# EAGLE library part H616 (library H616)
SOC QUAD CORE A53 TFBGA284 Source: Datasheet <https://linux-sunxi.org/images/b/b9/H616_Datasheet_V1.0_cleaned.pdf>
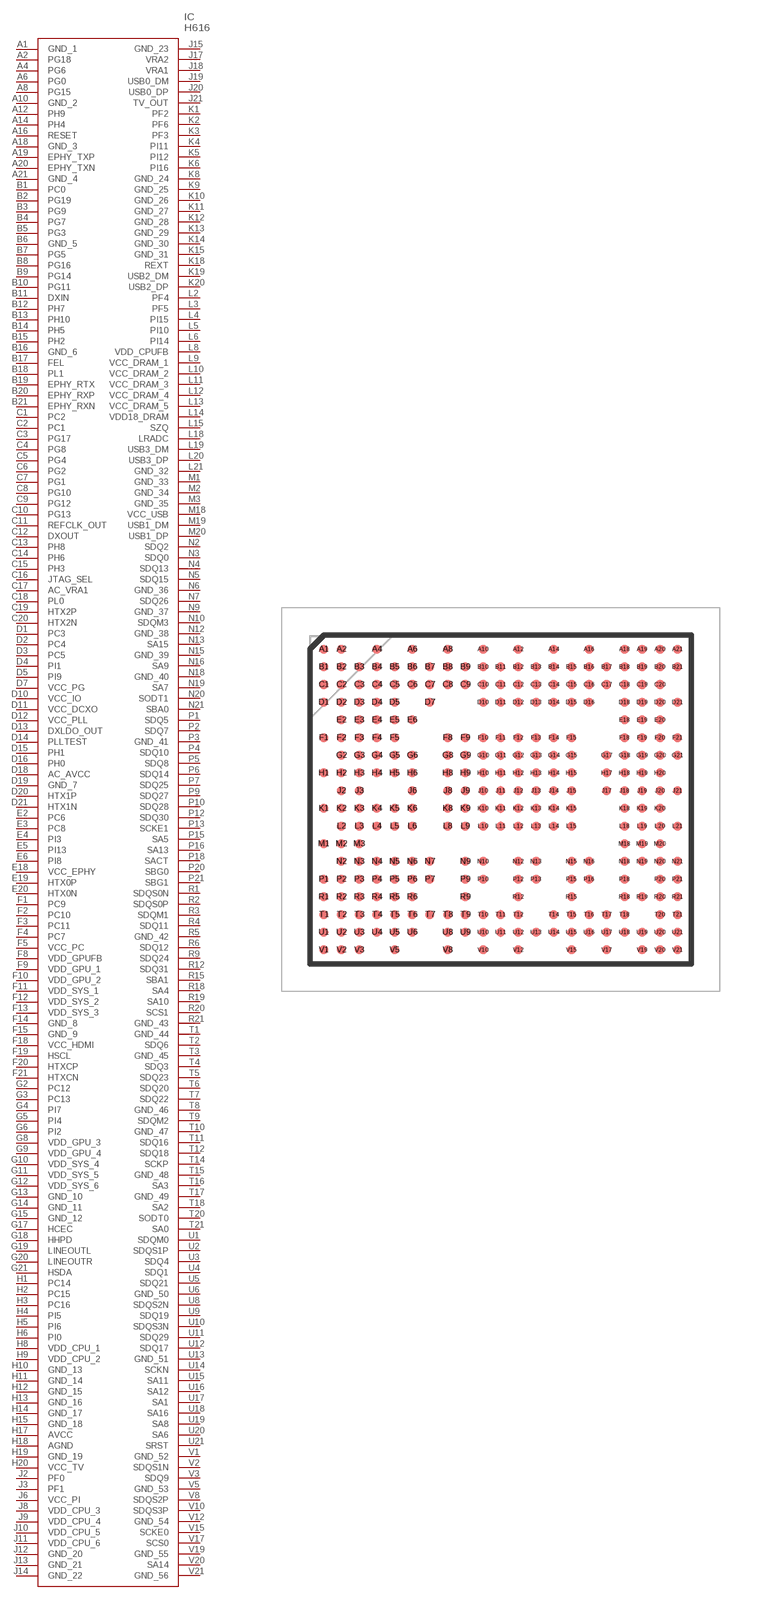
[diagram p0: symbol with the pads of BGA284C65P21X18_1400X1200X133; footprint BGA284C65P21X18_1400X1200X133]

Designator prefix IC

## H616 (Description: SOC QUAD CORE A53 TFBGA284; Height: 1.33mm; Manufacturer_Name: Allwinner Technology; Manufacturer_Part_Number: H616)  [BGA284C65P21X18_1400X1200X133]
A1  GND_1
A2  PG18
A4  PG6
A6  PG0
A8  PG15
A10  GND_2
A12  PH9
A14  PH4
A16  RESET
A18  GND_3
A19  EPHY_TXP
A20  EPHY_TXN
A21  GND_4
B1  PC0
B2  PG19
B3  PG9
B4  PG7
B5  PG3
B6  GND_5
B7  PG5
B8  PG16
B9  PG14
B10  PG11
B11  DXIN
B12  PH7
B13  PH10
B14  PH5
B15  PH2
B16  GND_6
B17  FEL
B18  PL1
B19  EPHY_RTX
B20  EPHY_RXP
B21  EPHY_RXN
C1  PC2
C2  PC1
C3  PG17
C4  PG8
C5  PG4
C6  PG2
C7  PG1
C8  PG10
C9  PG12
C10  PG13
C11  REFCLK_OUT
C12  DXOUT
C13  PH8
C14  PH6
C15  PH3
C16  JTAG_SEL
C17  AC_VRA1
C18  PL0
C19  HTX2P
C20  HTX2N
D1  PC3
D2  PC4
D3  PC5
D4  PI1
D5  PI9
D7  VCC_PG
D10  VCC_IO
D11  VCC_DCXO
D12  VCC_PLL
D13  DXLDO_OUT
D14  PLLTEST
D15  PH1
D16  PH0
D18  AC_AVCC
D19  GND_7
D20  HTX1P
D21  HTX1N
E2  PC6
E3  PC8
E4  PI3
E5  PI13
E6  PI8
E18  VCC_EPHY
E19  HTX0P
E20  HTX0N
F1  PC9
F2  PC10
F3  PC11
F4  PC7
F5  VCC_PC
F8  VDD_GPUFB
F9  VDD_GPU_1
F10  VDD_GPU_2
F11  VDD_SYS_1
F12  VDD_SYS_2
F13  VDD_SYS_3
F14  GND_8
F15  GND_9
F18  VCC_HDMI
F19  HSCL
F20  HTXCP
F21  HTXCN
G2  PC12
G3  PC13
G4  PI7
G5  PI4
G6  PI2
G8  VDD_GPU_3
G9  VDD_GPU_4
G10  VDD_SYS_4
G11  VDD_SYS_5
G12  VDD_SYS_6
G13  GND_10
G14  GND_11
G15  GND_12
G17  HCEC
G18  HHPD
G19  LINEOUTL
G20  LINEOUTR
G21  HSDA
H1  PC14
H2  PC15
H3  PC16
H4  PI5
H5  PI6
H6  PI0
H8  VDD_CPU_1
H9  VDD_CPU_2
H10  GND_13
H11  GND_14
H12  GND_15
H13  GND_16
H14  GND_17
H15  GND_18
H17  AVCC
H18  AGND
H19  GND_19
H20  VCC_TV
J2  PF0
J3  PF1
J6  VCC_PI
J8  VDD_CPU_3
J9  VDD_CPU_4
J10  VDD_CPU_5
J11  VDD_CPU_6
J12  GND_20
J13  GND_21
J14  GND_22
J15  GND_23
J17  VRA2
J18  VRA1
J19  USB0_DM
J20  USB0_DP
J21  TV_OUT
K1  PF2
K2  PF6
K3  PF3
K4  PI11
K5  PI12
K6  PI16
K8  GND_24
K9  GND_25
K10  GND_26
K11  GND_27
K12  GND_28
K13  GND_29
K14  GND_30
K15  GND_31
K18  REXT
K19  USB2_DM
K20  USB2_DP
L2  PF4
L3  PF5
L4  PI15
L5  PI10
L6  PI14
L8  VDD_CPUFB
L9  VCC_DRAM_1
L10  VCC_DRAM_2
L11  VCC_DRAM_3
L12  VCC_DRAM_4
L13  VCC_DRAM_5
L14  VDD18_DRAM
L15  SZQ
L18  LRADC
L19  USB3_DM
L20  USB3_DP
L21  GND_32
M1  GND_33
M2  GND_34
M3  GND_35
M18  VCC_USB
M19  USB1_DM
M20  USB1_DP
N2  SDQ2
N3  SDQ0
N4  SDQ13
N5  SDQ15
N6  GND_36
N7  SDQ26
N9  GND_37
N10  SDQM3
N12  GND_38
N13  SA15
N15  GND_39
N16  SA9
N18  GND_40
N19  SA7
N20  SODT1
N21  SBA0
P1  SDQ5
P2  SDQ7
P3  GND_41
P4  SDQ10
P5  SDQ8
P6  SDQ14
P7  SDQ25
P9  SDQ27
P10  SDQ28
P12  SDQ30
P13  SCKE1
P15  SA5
P16  SA13
P18  SACT
P20  SBG0
P21  SBG1
R1  SDQS0N
R2  SDQS0P
R3  SDQM1
R4  SDQ11
R5  GND_42
R6  SDQ12
R9  SDQ24
R12  SDQ31
R15  SBA1
R18  SA4
R19  SA10
R20  SCS1
R21  GND_43
T1  GND_44
T2  SDQ6
T3  GND_45
T4  SDQ3
T5  SDQ23
T6  SDQ20
T7  SDQ22
T8  GND_46
T9  SDQM2
T10  GND_47
T11  SDQ16
T12  SDQ18
T14  SCKP
T15  GND_48
T16  SA3
T17  GND_49
T18  SA2
T20  SODT0
T21  SA0
U1  SDQM0
U2  SDQS1P
U3  SDQ4
U4  SDQ1
U5  SDQ21
U6  GND_50
U8  SDQS2N
U9  SDQ19
U10  SDQS3N
U11  SDQ29
U12  SDQ17
U13  GND_51
U14  SCKN
U15  SA11
U16  SA12
U17  SA1
U18  SA16
U19  SA8
U20  SA6
U21  SRST
V1  GND_52
V2  SDQS1N
V3  SDQ9
V5  GND_53
V8  SDQS2P
V10  SDQS3P
V12  GND_54
V15  SCKE0
V17  SCS0
V19  GND_55
V20  SA14
V21  GND_56

## Footprint BGA284C65P21X18_1400X1200X133 (pad centres in mm)
TFBGA284
smd 0.33 x 0.33: A1 -6.5,5.525; A2 -5.85,5.525; A4 -4.55,5.525; A6 -3.25,5.525; A8 -1.95,5.525; A10 -0.65,5.525; A12 0.65,5.525; A14 1.95,5.525; A16 3.25,5.525; A18 4.55,5.525; A19 5.2,5.525; A20 5.85,5.525; A21 6.5,5.525; B1 -6.5,4.875; B2 -5.85,4.875; B3 -5.2,4.875; B4 -4.55,4.875; B5 -3.9,4.875; B6 -3.25,4.875; B7 -2.6,4.875; B8 -1.95,4.875; B9 -1.3,4.875; B10 -0.65,4.875; B11 0,4.875; B12 0.65,4.875; B13 1.3,4.875; B14 1.95,4.875; B15 2.6,4.875; B16 3.25,4.875; B17 3.9,4.875; B18 4.55,4.875; B19 5.2,4.875; B20 5.85,4.875; B21 6.5,4.875; C1 -6.5,4.225; C2 -5.85,4.225; C3 -5.2,4.225; C4 -4.55,4.225; C5 -3.9,4.225; C6 -3.25,4.225; C7 -2.6,4.225; C8 -1.95,4.225; C9 -1.3,4.225; C10 -0.65,4.225; C11 0,4.225; C12 0.65,4.225; C13 1.3,4.225; C14 1.95,4.225; C15 2.6,4.225; C16 3.25,4.225; C17 3.9,4.225; C18 4.55,4.225; C19 5.2,4.225; C20 5.85,4.225; D1 -6.5,3.575; D2 -5.85,3.575; D3 -5.2,3.575; D4 -4.55,3.575; D5 -3.9,3.575; D7 -2.6,3.575; D10 -0.65,3.575; D11 0,3.575; D12 0.65,3.575; D13 1.3,3.575; D14 1.95,3.575; D15 2.6,3.575; D16 3.25,3.575; D18 4.55,3.575; D19 5.2,3.575; D20 5.85,3.575; D21 6.5,3.575; E2 -5.85,2.925; E3 -5.2,2.925; E4 -4.55,2.925; E5 -3.9,2.925; E6 -3.25,2.925; E18 4.55,2.925; E19 5.2,2.925; E20 5.85,2.925; F1 -6.5,2.275; F2 -5.85,2.275; F3 -5.2,2.275; F4 -4.55,2.275; F5 -3.9,2.275; F8 -1.95,2.275; F9 -1.3,2.275; F10 -0.65,2.275; F11 0,2.275; F12 0.65,2.275; F13 1.3,2.275; F14 1.95,2.275; F15 2.6,2.275; F18 4.55,2.275; F19 5.2,2.275; F20 5.85,2.275; F21 6.5,2.275; G2 -5.85,1.625; G3 -5.2,1.625; G4 -4.55,1.625; G5 -3.9,1.625; G6 -3.25,1.625; G8 -1.95,1.625; G9 -1.3,1.625; G10 -0.65,1.625; G11 0,1.625; G12 0.65,1.625; G13 1.3,1.625; G14 1.95,1.625; G15 2.6,1.625; G17 3.9,1.625; G18 4.55,1.625; G19 5.2,1.625; G20 5.85,1.625; G21 6.5,1.625; H1 -6.5,0.975; H2 -5.85,0.975; H3 -5.2,0.975; H4 -4.55,0.975; H5 -3.9,0.975; H6 -3.25,0.975; H8 -1.95,0.975; H9 -1.3,0.975; H10 -0.65,0.975; H11 0,0.975; H12 0.65,0.975; H13 1.3,0.975; H14 1.95,0.975; H15 2.6,0.975; H17 3.9,0.975; H18 4.55,0.975; H19 5.2,0.975; H20 5.85,0.975; J2 -5.85,0.325; J3 -5.2,0.325; J6 -3.25,0.325; J8 -1.95,0.325; J9 -1.3,0.325; J10 -0.65,0.325; J11 0,0.325; J12 0.65,0.325; J13 1.3,0.325; J14 1.95,0.325; J15 2.6,0.325; J17 3.9,0.325; J18 4.55,0.325; J19 5.2,0.325; J20 5.85,0.325; J21 6.5,0.325; K1 -6.5,-0.325; K2 -5.85,-0.325; K3 -5.2,-0.325; K4 -4.55,-0.325; K5 -3.9,-0.325; K6 -3.25,-0.325; K8 -1.95,-0.325; K9 -1.3,-0.325; K10 -0.65,-0.325; K11 0,-0.325; K12 0.65,-0.325; K13 1.3,-0.325; K14 1.95,-0.325; K15 2.6,-0.325; K18 4.55,-0.325; K19 5.2,-0.325; K20 5.85,-0.325; L2 -5.85,-0.975; L3 -5.2,-0.975; L4 -4.55,-0.975; L5 -3.9,-0.975; L6 -3.25,-0.975; L8 -1.95,-0.975; L9 -1.3,-0.975; L10 -0.65,-0.975; L11 0,-0.975; L12 0.65,-0.975; L13 1.3,-0.975; L14 1.95,-0.975; L15 2.6,-0.975; L18 4.55,-0.975; L19 5.2,-0.975; L20 5.85,-0.975; L21 6.5,-0.975; M1 -6.5,-1.625; M2 -5.85,-1.625; M3 -5.2,-1.625; M18 4.55,-1.625; M19 5.2,-1.625; M20 5.85,-1.625; N2 -5.85,-2.275; N3 -5.2,-2.275; N4 -4.55,-2.275; N5 -3.9,-2.275; N6 -3.25,-2.275; N7 -2.6,-2.275; N9 -1.3,-2.275; N10 -0.65,-2.275; N12 0.65,-2.275; N13 1.3,-2.275; N15 2.6,-2.275; N16 3.25,-2.275; N18 4.55,-2.275; N19 5.2,-2.275; N20 5.85,-2.275; N21 6.5,-2.275; P1 -6.5,-2.925; P2 -5.85,-2.925; P3 -5.2,-2.925; P4 -4.55,-2.925; P5 -3.9,-2.925; P6 -3.25,-2.925; P7 -2.6,-2.925; P9 -1.3,-2.925; P10 -0.65,-2.925; P12 0.65,-2.925; P13 1.3,-2.925; P15 2.6,-2.925; P16 3.25,-2.925; P18 4.55,-2.925; P20 5.85,-2.925; P21 6.5,-2.925; R1 -6.5,-3.575; R2 -5.85,-3.575; R3 -5.2,-3.575; R4 -4.55,-3.575; R5 -3.9,-3.575; R6 -3.25,-3.575; R9 -1.3,-3.575; R12 0.65,-3.575; R15 2.6,-3.575; R18 4.55,-3.575; R19 5.2,-3.575; R20 5.85,-3.575; R21 6.5,-3.575; T1 -6.5,-4.225; T2 -5.85,-4.225; T3 -5.2,-4.225; T4 -4.55,-4.225; T5 -3.9,-4.225; T6 -3.25,-4.225; T7 -2.6,-4.225; T8 -1.95,-4.225; T9 -1.3,-4.225; T10 -0.65,-4.225; T11 0,-4.225; T12 0.65,-4.225; T14 1.95,-4.225; T15 2.6,-4.225; T16 3.25,-4.225; T17 3.9,-4.225; T18 4.55,-4.225; T20 5.85,-4.225; T21 6.5,-4.225; U1 -6.5,-4.875; U2 -5.85,-4.875; U3 -5.2,-4.875; U4 -4.55,-4.875; U5 -3.9,-4.875; U6 -3.25,-4.875; U8 -1.95,-4.875; U9 -1.3,-4.875; U10 -0.65,-4.875; U11 0,-4.875; U12 0.65,-4.875; U13 1.3,-4.875; U14 1.95,-4.875; U15 2.6,-4.875; U16 3.25,-4.875; U17 3.9,-4.875; U18 4.55,-4.875; U19 5.2,-4.875; U20 5.85,-4.875; U21 6.5,-4.875; V1 -6.5,-5.525; V2 -5.85,-5.525; V3 -5.2,-5.525; V5 -3.9,-5.525; V8 -1.95,-5.525; V10 -0.65,-5.525; V12 0.65,-5.525; V15 2.6,-5.525; V17 3.9,-5.525; V19 5.2,-5.525; V20 5.85,-5.525; V21 6.5,-5.525